# Altium footprint library pre_CAPACITOR.PcbLib: 26 footprints (part 2 of 2)
Each footprint in its own frame and in the unit in brackets; x right, y up, seen from the top. Pads: shape width x height; smd on the part's side, far side on the other; paste and mask are expansions set on the pad; w line width, h text height; cw(c..) or ccw(c..) is an arc to the next point about the centre after c.
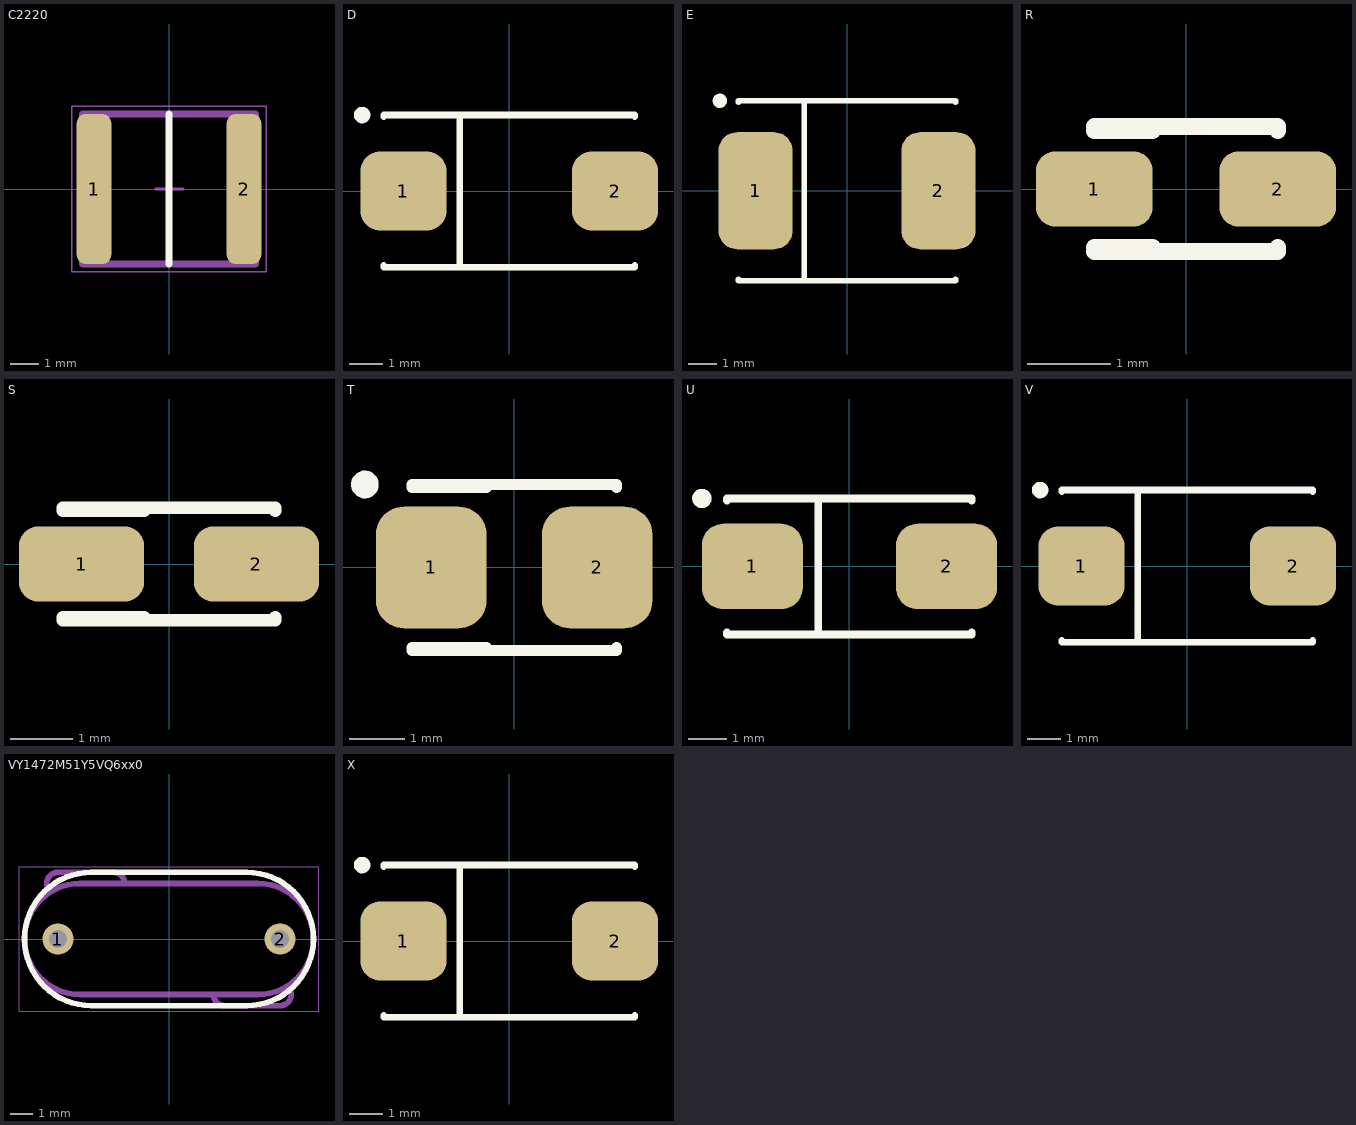
[diagram p1: the footprints below, top view; thin cyan lines are the x and y axes]

## C2220 [mm]
pads (2):
  rrect50% 1.2x5.2 smd: 1(-2.6,0) 2(2.6,0)
Top Overlay:
  lines w0.254: 0,-2.6 0,2.6
Top Assy:
  lines w0.254: -3,-2.6 -3,2.6 3,2.6 3,-2.6 -3,-2.6
Mechanical 13:
  lines w0.1: -3,-2.6 3.025,-2.6 3.025,2.6 -3,2.6 -3,-2.6
Mechanical 15:
  lines w0.05: -3.375,-2.875 -3.375,2.875 3.375,2.875 3.375,-2.875 -3.375,-2.875
  lines w0.1: -0.462,0 0.488,0 ; 0.013,-0.475 0.013,0.475
3D body: height 2, standoff 0, extent -3,-2.6 3.025,2.6

## D [mm] "Capacitor, SM Tantalum; Body 7.3 x 4.3 mm (LxW typ)"
height 3.1
pads (2):
  rrect50% 2.6x2.4 smd: 1(-3.2,0) 2(3.2,0)
Top Overlay:
  circle w0.25: c-4.45,2.3 r0.125
  lines w0.2: -3.8,-2.25 -3.8,-2.3 3.8,-2.3 3.8,-2.25 ; -3.8,2.25 -3.8,2.3 3.8,2.3 3.8,2.25 ; -1.5,-2.3 -1.5,2.3

## E [mm] "Capacitor, SM Tantalum; Body 7.3 x 6.0 mm (LxW typ)"
height 3.8
pads (2):
  rrect50% 2.6x4.1 smd: 1(-3.2,0) 2(3.2,0)
Top Overlay:
  circle w0.25: c-4.45,3.15 r0.125
  lines w0.2: -3.8,-3.1 -3.8,-3.15 3.8,-3.15 3.8,-3.1 ; -3.8,3.1 -3.8,3.15 3.8,3.15 3.8,3.1 ; -1.5,-3.15 -1.5,3.15

## R [mm] "Capacitor, SM Tantalum; Body 2.0 x 1.3 mm (LxW typ)"
height 1.2
pads (2):
  rrect50% 1.4x0.9 smd: 1(-1.1,0) 2(1.1,0)
Top Overlay:
  lines w0.2: -1.1,-0.75 1.1,-0.75 1.1,-0.7 ; -1.1,-0.7 -0.4,-0.7 ; -1.1,0.7 -0.4,0.7 ; -1.1,0.75 1.1,0.75 1.1,0.7

## S [mm] "Capacitor, SM Tantalum; Body 3.2 x 1.6 mm (LxW typ)"
height 1.2
pads (2):
  rrect50% 2x1.2 smd: 1(-1.4,0) 2(1.4,0)
Top Overlay:
  lines w0.2: -1.7,-0.9 1.7,-0.9 1.7,-0.85 ; -1.7,-0.85 -0.4,-0.85 ; -1.7,0.85 -0.4,0.85 ; -1.7,0.9 1.7,0.9 1.7,0.85

## T [mm] "Capacitor, SM Tantalum; Body 3.5 x 2.8 mm (LxW typ)"
height 1.2
pads (2):
  rrect50% 2x2.2 smd: 1(-1.5,0) 2(1.5,0)
Top Overlay:
  circle w0.25: c-2.7,1.5 r0.125
  lines w0.2: -1.85,-1.5 1.85,-1.5 1.85,-1.45 ; -1.85,-1.45 -0.5,-1.45 ; -1.85,1.45 -0.5,1.45 ; -1.85,1.5 1.85,1.5 1.85,1.45

## U [mm] "Capacitor, SM Tantalum; Body 6.0 x 3.2 mm (LxW typ)"
height 1.5
pads (2):
  rrect50% 2.6x2.2 smd: 1(-2.5,0) 2(2.5,0)
Top Overlay:
  circle w0.25: c-3.8,1.75 r0.125
  lines w0.2: -3.15,-1.7 -3.15,-1.75 3.15,-1.75 3.15,-1.7 ; -3.15,1.7 -3.15,1.75 3.15,1.75 3.15,1.7 ; -0.8,-1.75 -0.8,1.75

## V [mm] "Capacitor, SM Tantalum; Body 7.3 x 4.3 mm (LxW typ)"
height 2
pads (2):
  rrect50% 2.6x2.4 smd: 1(-3.2,0) 2(3.2,0)
Top Overlay:
  circle w0.25: c-4.45,2.3 r0.125
  lines w0.2: -3.8,-2.25 -3.8,-2.3 3.8,-2.3 3.8,-2.25 ; -3.8,2.25 -3.8,2.3 3.8,2.3 3.8,2.25 ; -1.5,-2.3 -1.5,2.3

## VY1472M51Y5VQ6xx0 [mm]
height 17
pads (2):
  round 1.4 hole 0.8: 1(-5,0) 2(5,0)
Top Overlay:
  lines w0.254: -3.5,-3 cw(c-3.5,0) -3.5,3 3.5,3 cw(c3.5,0) 3.5,-3 -3.5,-3
Top Assy:
  lines w0.254: -5.354,2.146 cw(c-5,2.5) -5,3 -2.5,3 cw(c-2.5,2.5) -2,2.5 ; 2,-2.5 ccw(c2.5,-2.5) 2.5,-3 5,-3 ccw(c5,-2.5) 5.354,-2.146 ; -4,-2.5 cw(c-4,0) -4,2.5 4,2.5 cw(c4,0) 4,-2.5 -4,-2.5
Mechanical 15:
  lines w0.05: -6.75,-3.25 6.75,-3.25 6.75,3.25 -6.75,3.25 -6.75,-3.25
3D body: height 17, standoff 4, extent -6.5,-2.5 6.5,2.5

## X [mm] "Capacitor, SM Tantalum; Body 7.3 x 4.3 mm (LxW typ)"
height 4.3
pads (2):
  rrect50% 2.6x2.4 smd: 1(-3.2,0) 2(3.2,0)
Top Overlay:
  circle w0.25: c-4.45,2.3 r0.125
  lines w0.2: -3.8,-2.25 -3.8,-2.3 3.8,-2.3 3.8,-2.25 ; -3.8,2.25 -3.8,2.3 3.8,2.3 3.8,2.25 ; -1.5,-2.3 -1.5,2.3